# EAGLE library part 229-48VA (library trafo-hammond)
TOROID TRANSFORMER
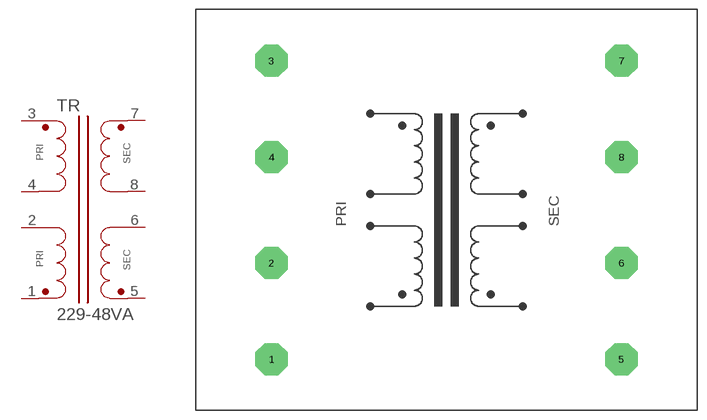
[diagram p0: symbol with the pads of 229-48VA; footprint 229-48VA]

Designator prefix TR

## 229-48VA  [229-48VA]
1  1  pas
2  2  pas
3  3  pas
4  4  pas
5  5  pas
6  6  pas
7  7  pas
8  8  pas

## Footprint 229-48VA (pad centres in mm)
POWER TRANSFORMER W=2.50, L=3.12 inch PC Card Spacing 1.50"
drill 1.422 pad 5.08 octagon: 1 -27.686,-23.622; 2 -27.686,-8.382; 3 -27.686,23.622; 4 -27.686,8.382; 5 27.686,-23.622; 6 27.686,-8.382; 7 27.686,23.622; 8 27.686,8.382